# Altium schematic symbol library IND 56UH 4A 65 mOHM SMD.Schlib: 1 symbol
Pins are listed as number, name and electrical type; pins without a type are passive.

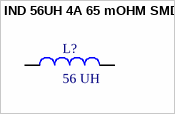
[diagram p0: symbol IND 56UH 4A 65 mOHM SMD]

## IND 56UH 4A 65 mOHM SMD
designator L?, comment 56 UH
FIXED IND 56UH 4A 65 MOHM SMD Shielded - Inductor 65mOhm Max Nonstandard -; Value: 56 µH; Current Rating: 4A; Supplier 1: Digi-Key; Supplier Part Number 1: 283-HCM1A1307V2-560-RCT-ND
footprint EATON _HCM1A1307V2-560-R (FIXED IND 56UH 4A 65 mOHM SMD)
pins: 1, 2